# Altium footprint library Tranzistor.PcbLib: 240 footprints (part 13 of 15)
Each footprint in its own frame and in the unit in brackets; x right, y up, seen from the top. Pads: shape width x height; smd on the part's side, far side on the other; paste and mask are expansions set on the pad; w line width, h text height; cw(c..) or ccw(c..) is an arc to the next point about the centre after c.
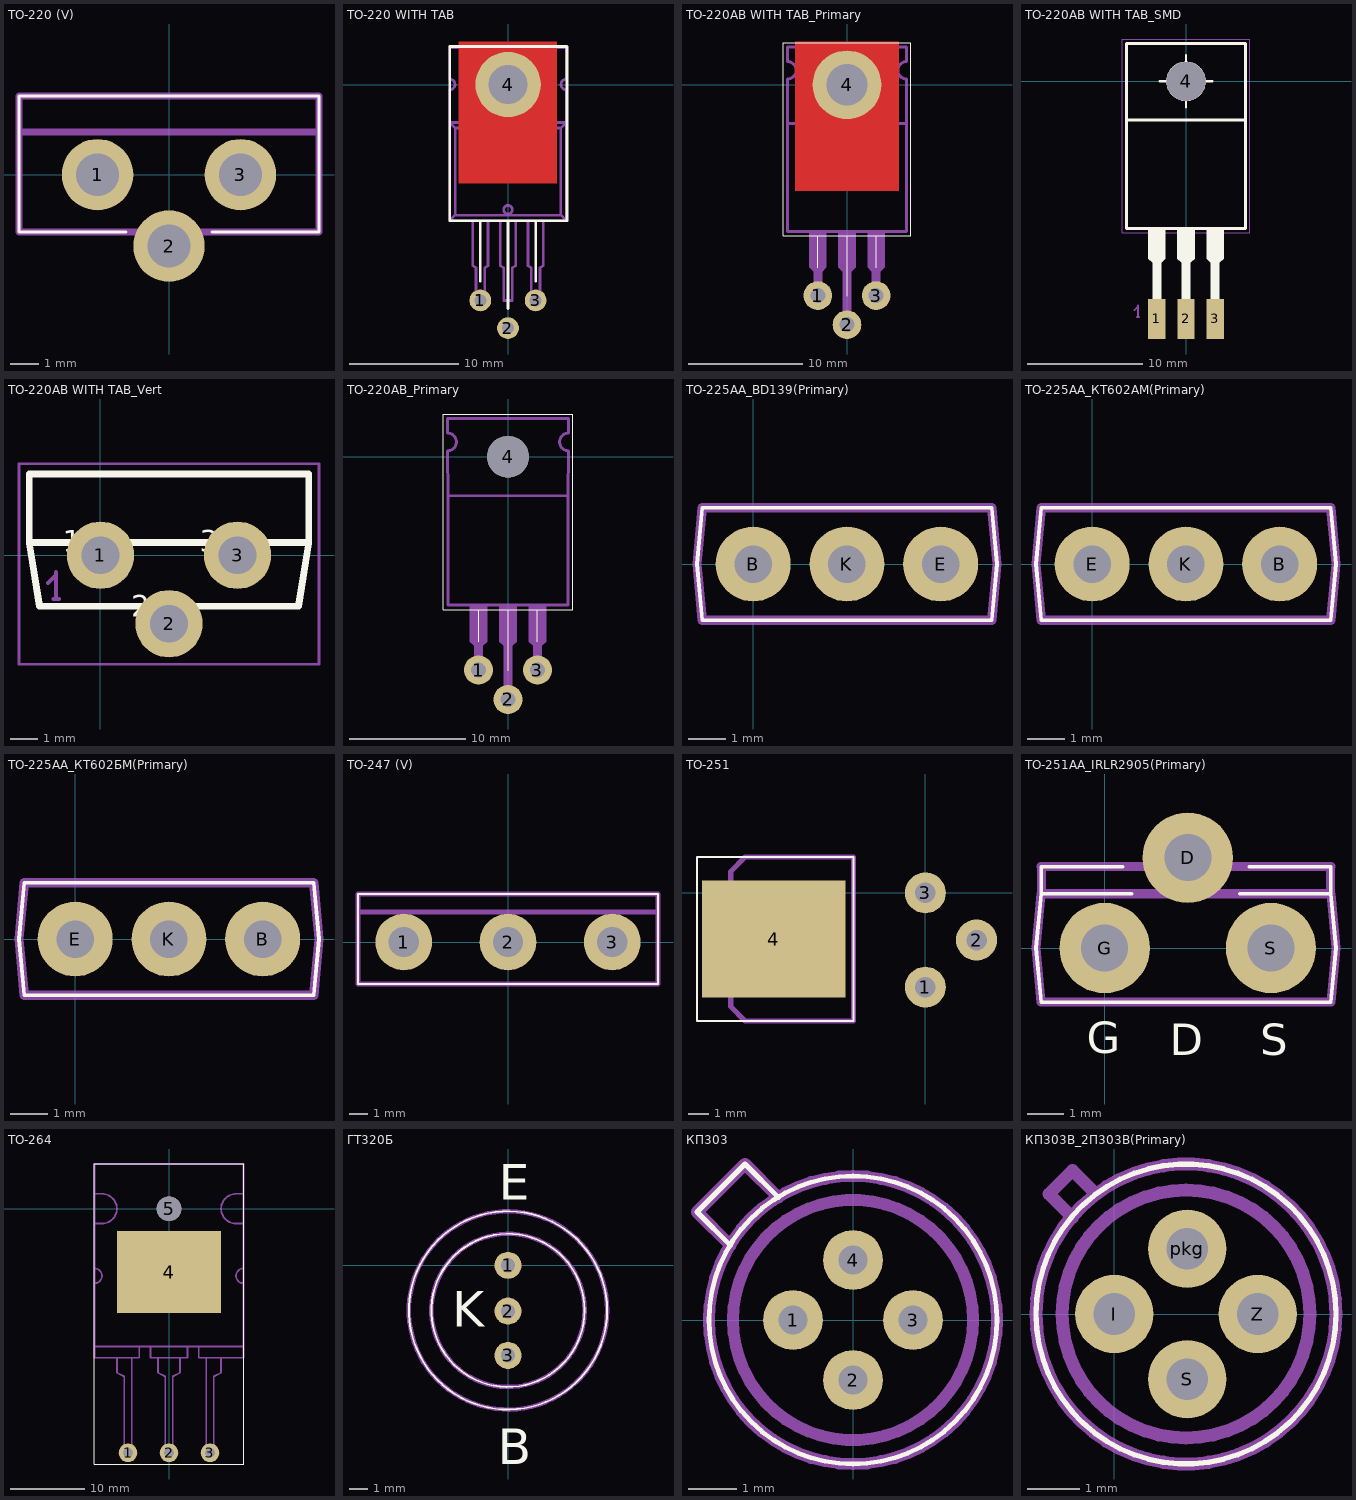
[diagram p12: the footprints below, top view; thin cyan lines are the x and y axes]

## TO-220 (V) [mm]
pads (3):
  round 2.5 hole 1.5: 1(-2.5,0) 2(0,-2.5) 3(2.5,0)
Top Overlay:
  lines w0.1: -1.5,-2 -5.25,-2 -5.25,2.75 5.25,2.75 5.25,-2 1.5,-2
Mechanical 1:
  lines w0.25: -5.25,1.5 5.25,1.5 ; -5.25,-2 5.25,-2 5.25,2.75 -5.25,2.75 -5.25,-2

## TO-220 WITH TAB [mm]
pads (4):
  round 2 hole 1.1: 1(-2.55,-19.82) 2(-0.01,-22.36) 3(2.53,-19.82)
  round 6 hole 3.6: 4(0,0)
Top Layer:
  region: -4.55,-9.07 4.45,-9.07 4.45,3.93 -4.55,3.93
Top Overlay:
  lines w0.25: -2.55,-18.07 -2.55,-12.494 ; -0.01,-20.57 -0.01,-12.494 ; 2.53,-18.07 2.53,-12.494 ; -5.35,-12.5 5.4,-12.5 5.4,3.5 -5.35,3.5 -5.35,-12.5
Top Solder:
  region: -4.8,-9.32 4.7,-9.32 4.7,4.18 -4.8,4.18
Mechanical 1:
  circle w0.25: c-0.01,0.006 r2
  circle w0.25: c-0.01,-11.488 r0.397
  lines w0.25: -3.25,-16.644 -2.95,-16.819 -2.95,-19.819 -2.55,-19.819 -2.15,-19.819 -2.15,-16.819 -1.85,-16.644 ; -3.25,-16.57 -3.25,-12.494 ; -1.85,-16.57 -1.85,-12.494 ; -0.71,-16.644 -0.41,-16.819 -0.41,-19.819 -0.01,-19.819 0.39,-19.819 0.39,-16.819 0.69,-16.644 ; -0.71,-16.57 -0.71,-12.494 ; 0.69,-16.57 0.69,-12.494 ; 1.83,-16.644 2.13,-16.819 2.13,-19.819 2.53,-19.819 2.93,-19.819 2.93,-16.819 3.23,-16.644 ; 1.83,-16.57 1.83,-12.494 ; 3.23,-16.57 3.23,-12.494 ; -5.36,-12.494 5.34,-12.494 ; -5.36,-12.494 -5.36,-3.494 ; -5.36,-12.494 -4.86,-11.994 ; -5.36,-3.494 5.34,-3.494 ; -5.36,-3.494 -5.36,-0.475 ccw(c-5.36,0.006) -5.36,0.487 -5.36,3.406 5.34,3.406 5.34,0.487 ccw(c5.34,0.006) 5.34,-0.475 5.34,-3.494 ; -5.36,-3.494 -4.86,-3.994 ; -4.86,-11.994 4.84,-11.994 ; -4.86,-11.994 -4.86,-3.994 ; -4.86,-3.994 4.84,-3.994 ; 4.84,-11.994 4.84,-3.994 ; 4.84,-11.994 5.34,-12.494 ; 4.84,-3.994 5.34,-3.494 ; 5.34,-12.494 5.34,-3.494
  text "2" at -0.4,-10.8 h0.94
  text "3" at 2,-11.75 h0.94
  text "1" at -2.95,-11.75 h0.94

## TO-220AB WITH TAB_Primary [mm]
pads (4):
  round 2.5 hole 1.3: 1(-2.54,-18.388) 2(0,-20.928) 3(2.54,-18.388)
  round 6 hole 3.6: 4(0,0)
Top Layer:
  region: -4.5,-9.25 4.5,-9.25 4.5,3.75 -4.5,3.75
Top Overlay:
  lines w0.1: -2.54,-15.965 -2.54,-13.18 ; 0,-18.465 0,-13.18 ; 2.54,-15.965 2.54,-13.18 ; -5.56,-13.18 5.56,-13.18 5.56,3.68 -5.56,3.68 -5.56,-13.18
Top Solder:
  region: -4.75,-9.5 4.75,-9.5 4.75,4 -4.75,4
Mechanical 1:
  circle w0.254: c0,0 r1.6
  region: -0.75,-12.92 -0.75,-15.933 -0.375,-16.308 0.375,-16.308 0.75,-15.933 0.75,-12.92
  region: 0.375,-16.308 -0.375,-16.308 -0.375,-21.178 0,-21.178 0.375,-21.178
  region: 2.915,-16.308 2.165,-16.308 2.165,-18.638 2.54,-18.638 2.915,-18.638
  region: -2.165,-16.308 -2.915,-16.308 -2.915,-18.638 -2.54,-18.638 -2.165,-18.638
  region: 1.8,-12.92 1.79,-15.933 2.165,-16.308 2.915,-16.308 3.29,-15.933 3.3,-12.92
  region: -3.3,-12.92 -3.29,-15.933 -2.915,-16.308 -2.165,-16.308 -1.79,-15.933 -1.8,-12.92 -2.55,-12.92
  lines w0.25: -5.207,0.508 -5.18,-3.37 ; -5.207,2.032 -5.207,3.302 ; 5.207,0.508 5.18,-3.37 ; -5.18,-3.37 5.18,-3.37 ; -5.18,-3.37 -5.18,-12.8 5.18,-12.8 5.18,-3.37
  lines w0.254: -5.207,0.508 ccw(c-5.207,1.27) -5.207,2.032 ; -5.207,3.302 5.207,3.302 5.207,2.032 ccw(c5.207,1.27) 5.207,0.508
  text "2" at -0.508,-12.573 h0.79
  text "3" at 2.159,-12.573 h0.79
  text "1" at -3.048,-12.573 h0.79

## TO-220AB WITH TAB_SMD [mm]
pads (4):
  rect 1.5x3.5 smd: 1(-2.54,-20.675) 2(0,-20.675) 3(2.54,-20.675)
  round 3.4 hole 3.4 unplated: 4(0,0)
Top Overlay:
  circle w0.254: c0,0 r1.6
  region: -0.75,-12.925 -0.75,-15.425 -0.375,-15.8 0.375,-15.8 0.75,-15.425 0.75,-12.925
  region: 0.375,-15.8 -0.375,-15.8 -0.375,-20.3 -0.005,-20.3 0.375,-20.3
  region: 1.79,-12.925 1.79,-15.425 2.165,-15.8 2.915,-15.8 3.29,-15.425 3.29,-12.925
  region: -3.29,-12.925 -3.29,-15.425 -2.915,-15.8 -2.165,-15.8 -1.79,-15.425 -1.79,-12.925 -2.54,-12.925
  region: 2.915,-15.8 2.165,-15.8 2.165,-20.3 2.535,-20.3 2.915,-20.3
  region: -2.165,-15.8 -2.915,-15.8 -2.915,-20.3 -2.545,-20.3 -2.165,-20.3
  lines w0.2: -2.286,0 2.286,0 ; 0,-2.286 0,2.286
  lines w0.254: -5.18,-3.37 5.18,-3.37 ; -5.18,-3.37 -5.18,-12.8 5.18,-12.8 5.18,-3.37 ; -5.18,-3.37 -5.18,3.3 5.18,3.3 5.18,-3.37
Mechanical 1:
  lines w0.1: -2.54,-16.875 -2.54,-13.18 ; 0,-16.875 0,-13.18 ; 2.54,-16.875 2.54,-13.18 ; -5.56,-13.18 5.56,-13.18 5.56,3.68 -5.56,3.68 -5.56,-13.18
  lines w0.15: -4.485,-19.91 -4.185,-19.61 ; -4.285,-20.51 -4.085,-20.51 ; -4.185,-20.51 -4.185,-19.51

## TO-220AB WITH TAB_Vert [mm]
pads (3):
  round 2.5 hole 1.4: 1(0,0) 2(2.54,-2.54) 3(5.08,0)
Top Overlay:
  lines w0.254: -2.64,0.47 7.72,0.47 ; -2.64,0.47 -2.26,-1.89 7.34,-1.89 7.72,0.47 ; -2.64,0.47 -2.64,3.01 7.72,3.01 7.72,0.47
  text "3" at 3.683,0.127 h0.79
  text "1" at -1.397,0.127 h0.79
  text "2" at 1.143,-2.286 h0.79
Mechanical 1:
  lines w0.1: -3.02,-4.04 8.1,-4.04 8.1,3.39 -3.02,3.39 -3.02,-4.04
  lines w0.15: -1.945,-1.03 -1.645,-0.73 ; -1.745,-1.63 -1.545,-1.63 ; -1.645,-1.63 -1.645,-0.63

## TO-220AB_Primary [mm]
pads (4):
  round 2.5 hole 1.3: 1(-2.54,-18.388) 2(0,-20.928) 3(2.54,-18.388)
  round 3.6 hole 3.6 unplated: 4(0,0)
Top Overlay:
  lines w0.1: -2.54,-15.965 -2.54,-13.18 ; 0,-18.465 0,-13.18 ; 2.54,-15.965 2.54,-13.18 ; -5.56,-13.18 5.56,-13.18 5.56,3.68 -5.56,3.68 -5.56,-13.18
Mechanical 1:
  circle w0.254: c0,0 r1.6
  region: 0.375,-16.308 -0.375,-16.308 -0.375,-21.178 0,-21.178 0.375,-21.178
  region: -0.75,-12.92 -0.75,-15.933 -0.375,-16.308 0.375,-16.308 0.75,-15.933 0.75,-12.92
  region: 2.915,-16.308 2.165,-16.308 2.165,-18.638 2.54,-18.638 2.915,-18.638
  region: -2.165,-16.308 -2.915,-16.308 -2.915,-18.638 -2.54,-18.638 -2.165,-18.638
  region: 1.8,-12.92 1.79,-15.933 2.165,-16.308 2.915,-16.308 3.29,-15.933 3.3,-12.92
  region: -3.3,-12.92 -3.29,-15.933 -2.915,-16.308 -2.165,-16.308 -1.79,-15.933 -1.8,-12.92 -2.55,-12.92
  lines w0.25: -5.207,0.508 -5.18,-3.37 ; -5.207,2.032 -5.207,3.302 ; 5.207,0.508 5.18,-3.37 ; -5.18,-3.37 5.18,-3.37 ; -5.18,-3.37 -5.18,-12.8 5.18,-12.8 5.18,-3.37
  lines w0.254: -5.207,0.508 ccw(c-5.207,1.27) -5.207,2.032 ; -5.207,3.302 5.207,3.302 5.207,2.032 ccw(c5.207,1.27) 5.207,0.508
  text "2" at -0.508,-12.573 h0.79
  text "3" at 2.159,-12.573 h0.79
  text "1" at -3.048,-12.573 h0.79

## TO-225AA_BD139(Primary) [mm]
pads (3):
  round 2 hole 1: B(0,0) E(5,0) K(2.5,0)
Top Overlay:
  lines w0.1: -1.5,0.002 -1.357,1.502 6.357,1.502 6.5,0.002 6.357,-1.498 -1.357,-1.498 -1.5,0.002
Mechanical 1:
  lines w0.25: -1.5,0.002 -1.357,1.502 6.357,1.502 6.5,0.002 6.357,-1.498 -1.357,-1.498 -1.5,0.002

## TO-225AA_КТ602АМ(Primary) [mm]
pads (3):
  round 2 hole 1: B(5,0) E(0,0) K(2.5,0)
Top Overlay:
  lines w0.1: -1.5,0.002 -1.357,1.502 6.357,1.502 6.5,0.002 6.357,-1.498 -1.357,-1.498 -1.5,0.002
Mechanical 1:
  lines w0.25: -1.5,0.002 -1.357,1.502 6.357,1.502 6.5,0.002 6.357,-1.498 -1.357,-1.498 -1.5,0.002

## TO-225AA_КТ602БМ(Primary) [mm]
pads (3):
  round 2 hole 1: B(5,0) E(0,0) K(2.5,0)
Top Overlay:
  lines w0.1: -1.5,0.002 -1.357,1.502 6.357,1.502 6.5,0.002 6.357,-1.498 -1.357,-1.498 -1.5,0.002
Mechanical 1:
  lines w0.25: -1.5,0.002 -1.357,1.502 6.357,1.502 6.5,0.002 6.357,-1.498 -1.357,-1.498 -1.5,0.002

## TO-247 (V) [mm]
pads (3):
  round 3 hole 1.6: 1(-5.515,0) 2(0,0) 3(5.516,0)
Top Overlay:
  lines w0.1: -7.938,-2.222 7.938,-2.222 7.938,2.54 -7.938,2.54 -7.938,-2.222
Mechanical 1:
  lines w0.25: -7.938,1.587 7.938,1.587 ; -7.938,-2.222 7.938,-2.222 7.938,2.54 -7.938,2.54 -7.938,-2.222

## TO-251 [mm]
pads (4):
  round 2 hole 1: 1(0,-4.6) 2(2.5,-2.3) 3(0,0)
  rect 7x5.7 smd: 4(-7.4,-2.25)
Top Overlay:
  lines w0.1: -11.15,-6.25 -7.5,-6.25 -3.5,-6.25 -3.5,1.75 -11.15,1.75 -11.15,-6.25
Mechanical 1:
  lines w0.25: -9.5,-4.85 -9.95,-4.85 -10.55,-4.25 -10.55,-3.4 -10.55,-3.15 -9.95,-3.15 -9.95,-2.25 -9.95,-1.35 -10.55,-1.35 -10.55,-1.1 -10.55,-0.25 -9.95,0.35 -9.5,0.35 ; -9.5,-5.55 -9.5,1.05 -8.8,1.75 -3.5,1.75 -3.5,-6.25 -8.8,-6.25 -9.5,-5.55

## TO-251AA_IRLR2905(Primary) [mm]
pads (3):
  round 2.5 hole 1.3: D(2.3,2.5) G(0,0) S(4.6,0)
Top Overlay:
  lines w0.1: -1.75,1.5 -1.75,2.25 0.5,2.25 ; 0.75,1.5 -1.757,1.502 -1.9,0.002 -1.757,-1.498 6.257,-1.498 6.4,0.002 6.257,1.502 ; 3.743,1.502 6.25,1.5 6.25,2.25 4,2.25
  text "D" at 1.8,-3.25 h1.5
  text "S" at 4.3,-3.25 h1.5
  text "G" at -0.5,-3.2 h1.5
Mechanical 1:
  lines w0.25: -1.757,2.252 6.257,2.252 ; -1.75,1.5 -1.75,2.25 ; 6.25,1.5 6.25,2.25 ; -1.9,0.002 -1.757,-1.498 6.257,-1.498 6.4,0.002 6.257,1.502 -1.757,1.502 -1.9,0.002

## TO-264 [mm]
pads (5):
  round 2.5 hole 1.3: 1(-5.5,-32.75) 2(0,-32.75) 3(5.5,-32.75)
  rect 14x11 smd: 4(0,-8.5)
  round 3.3 hole 3.3 unplated: 5(0,0)
Top Overlay:
  lines w0.1: -10,-34.25 10,-34.25 10,6 -10,6 -10,-34.25
Mechanical 1:
  lines w0.25: -10,-18.5 10,-18.5 ; -10,-2 -9,-2 ccw(c-9,0) -9,2 -10,2 ; -7,-20 -7,-22 -6,-22.5 -6,-32 -5,-32 -5,-20 ; -4,-18.5 -4,-20 -10,-20 -10,-10 ; -2.5,-18.5 -2.5,-20 2.5,-20 2.5,-18.5 ; -1.5,-20 -1.5,-22 -0.5,-22.5 -0.5,-32 0.5,-32 0.5,-22.5 1.5,-22 1.5,-20 ; 4,-18.5 4,-20 10,-20 10,-10 ; 5,-20 5,-32 6,-32 6,-22.5 7,-22 7,-20 ; 10,-2 9,-2 cw(c9,0) 9,2 10,2 ; -10,-10 ccw(c-10,-9) -10,-8 ; -10,-10 -10,-8 ; -10,-8 -10,6 10,6 10,-8 ; 10,-10 cw(c10,-9) 10,-8 ; 10,-10 10,-8

## ГТ320Б [mm]
pads (3):
  round 1.5 hole 0.8: 1(0,0) 2(0,-2.54) 3(0,-5)
Top Overlay:
  circle w0.1: c0,-2.5 r4.25
  circle w0.1: c0,-2.5 r5.5
  text "E" at -0.517,3.638 h1.98
  text "B" at -0.558,-11.023 h1.98
  text "K" at -3.098,-3.403 h1.98
Mechanical 1:
  circle w0.25: c0,-2.5 r4.25
  circle w0.25: c0,-2.5 r5.5
  text "E" at -0.517,3.638 h1.98
  text "B" at -0.558,-11.023 h1.98
  text "K" at -3.098,-3.403 h1.98

## КП303 [mm]
pads (4):
  round 1.25 hole 0.6: 1(-1.25,0) 2(0,-1.25) 3(1.25,0) 4(0,1.25)
Top Overlay:
  lines w0.1: -2.55,1.55 -3.25,2.25 -2.25,3.25 -1.55,2.55 ; -3,0 ccw(c0,0) 3,0 ccw(c0,0) -3,0
Mechanical 1:
  lines w0.25: -2.55,1.55 -3.25,2.25 -2.75,2.75 -2.25,3.25 -1.55,2.55 ; -3,0 ccw(c0,0) 3,0 ccw(c0,0) -3,0 ; -2.5,0 ccw(c0,0) 2.5,0 ccw(c0,0) -2.5,0

## КП303В_2П303В(Primary) [mm]
pads (4):
  round 1.5 hole 0.8: I(0,0) pkg(1.4,1.25) S(1.4,-1.25) Z(2.75,0)
Top Overlay:
  lines w0.1: -1.5,0 cw(c1.375,0) 4.25,0 cw(c1.375,0) -1.5,0
Mechanical 1:
  lines w0.25: -0.8,1.85 -1.25,2.3 -0.8,2.75 -0.35,2.3 ; -1.5,0 cw(c1.375,0) 4.25,0 cw(c1.375,0) -1.5,0 ; -1,0 cw(c1.375,0) 3.75,0 cw(c1.375,0) -1,0